# Altium footprint library REFLOW_CONTROLLER.PcbLib: 27 footprints (part 2 of 2)
Each footprint in its own frame and in the unit in brackets; x right, y up, seen from the top. Pads: shape width x height; smd on the part's side, far side on the other; paste and mask are expansions set on the pad; w line width, h text height; cw(c..) or ccw(c..) is an arc to the next point about the centre after c.
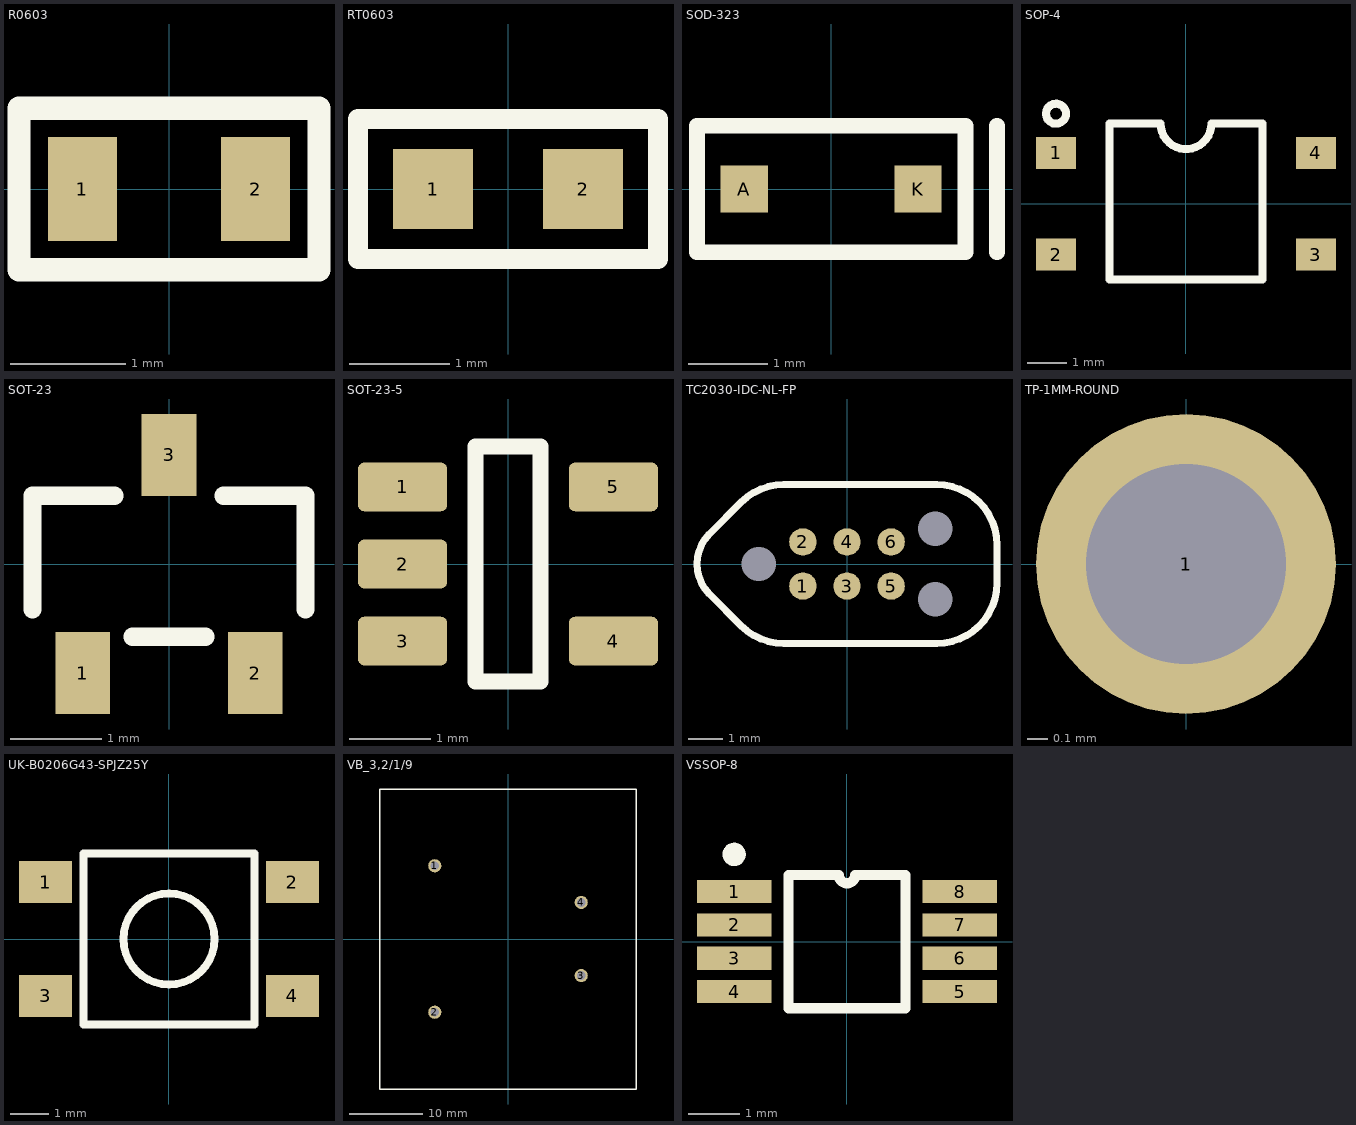
[diagram p1: the footprints below, top view; thin cyan lines are the x and y axes]

## R0603 [mm]
pads (2):
  rect 0.6x0.9 smd: 1(-0.75,0) 2(0.75,0)
Top Overlay:
  lines w0.2: -1.3,-0.7 -1.3,0.7 1.3,0.7 1.3,-0.7 -1.3,-0.7
3D body: height 0.37, standoff 0, extent -0.8,-0.401 0.8,0.401

## RT0603 [mm]
pads (2):
  rect 0.8x0.8 smd: 1(-0.75,0) 2(0.75,0)
Top Overlay:
  lines w0.2: -1.5,-0.7 1.5,-0.7 1.5,0.7 -1.5,0.7 -1.5,-0.7
3D body: height 0.8, standoff 0, extent -0.8,-0.4 0.8,0.4

## SOD-323 [mm]
pads (2):
  rect 0.6x0.6 smd: A(-1.1,0) K(1.1,0)
Top Overlay:
  lines w0.2: 2.1,-0.8 2.1,0.8 ; -1.7,-0.8 -1.7,0.8 1.7,0.8 1.7,-0.8 -1.7,-0.8
3D body: height 1.1, standoff 0, extent -1.3,-0.675 1.3,0.675

## SOP-4 [mm]
pads (4):
  rect 1x0.8 smd: 1(-3.25,1.27) 2(-3.25,-1.27) 3(3.25,-1.27) 4(3.25,1.27)
Top Overlay:
  circle w0.2: c-3.25,2.25 r0.25
  lines w0.2: -1.915,-1.9 -1.915,2 -0.635,2 ccw(c0,2) 0.635,2 1.915,2 1.915,-1.9 -1.915,-1.9
3D body: height 2.2, standoff 0, extent -3.514,-1.9 3.514,1.9

## SOT-23 [mm]
pads (3):
  rect 0.6x0.9 smd: 1(-0.95,-1.2) 2(0.95,-1.2) 3(0,1.2)
Top Overlay:
  lines w0.2: -1.5,-0.5 -1.5,0.75 -0.6,0.75 ; -0.4,-0.8 0.4,-0.8 ; 0.6,0.75 1.5,0.75 1.5,-0.5
3D body: height 1.08, standoff 0, extent -1.5,-1.32 1.5,1.32

## SOT-23-5 [mm]
pads (5):
  rrect25% 1.1x0.6 smd: 1(-1.3,0.95) 2(-1.3,0) 3(-1.3,-0.95) 4(1.3,-0.95) 5(1.3,0.95)
Top Overlay:
  lines w0.2: -0.4,-1.45 0.4,-1.45 0.4,1.45 -0.4,1.45 -0.4,-1.45
3D body: height 1.2, standoff 0, extent -1.4,-1.45 1.4,1.45

## TC2030-IDC-NL-FP [mil]
pads (9):
  round 31 smd paste-31.5: 1(-50,-25) 2(-50,25) 3(0,-25) 4(0,25) 5(50,-25) 6(50,25)
  round 0 hole 39 unplated paste+0 mask+4: MH(-100,0) MH(100,-40) MH(100,40)
Top Overlay:
  lines w8: -71.72,-90 cw(c-71.72,-21.72) -120,-70 -155.86,-34.14 cw(c-121.72,0) -170,0 cw(c-121.72,0) -155.86,34.14 -120,70 cw(c-71.72,21.72) -71.72,90 -70,90 101.72,90 cw(c101.72,21.72) 170,21.72 170,-21.72 cw(c101.72,-21.72) 101.72,-90 -70,-90

## TP-1MM-ROUND [mm]
pads (1):
  round 1.5 hole 1: 1(0,0)

## UK-B0206G43-SPJZ25Y [mm]
pads (4):
  rect 1.4x1.1 smd: 1(-3.25,1.5) 2(3.25,1.5) 3(-3.25,-1.5) 4(3.25,-1.5)
Top Overlay:
  circle w0.203: c0,0 r1.2
  lines w0.203: -2.25,-2.25 2.25,-2.25 2.25,2.25 -2.25,2.25 -2.25,-2.25
3D body: height 4.2, standoff 0, extent -3.75,-2.25 3.75,2.25

## VB_3,2/1/9 [mm]
pads (4):
  round 1.8 hole 1.2: 1(-10,10) 2(-10,-10) 3(10,-5) 4(10,5)
Top Overlay:
  lines w0.2: -17.5,-20.5 17.5,-20.5 17.5,20.5 -17.5,20.5 -17.5,-20.5
3D body: height 30.8, standoff -5, extent -17.5,-20.5 17.5,20.5

## VSSOP-8 [mm]
pads (8):
  rect 1.45x0.45 smd: 1(-2.2,0.975) 2(-2.2,0.325) 3(-2.2,-0.325) 4(-2.2,-0.975) 5(2.2,-0.975) 6(2.2,-0.325) 7(2.2,0.325) 8(2.2,0.975)
Top Overlay:
  circle w0.254: c-2.2,1.7 r0.1
  lines w0.2: -1.14,-1.3 1.14,-1.3 1.14,1.3 0.162,1.3 cw(c0,1.3) -0.162,1.3 -1.14,1.3 -1.14,-1.3
3D body: height 1.1, standoff 0, extent -2.451,-1.498 2.451,1.499